# Altium footprint library Parts.PcbLib: 9 footprints
Each footprint in its own frame and in the unit in brackets; x right, y up, seen from the top. Pads: shape width x height; smd on the part's side, far side on the other; paste and mask are expansions set on the pad; w line width, h text height; cw(c..) or ccw(c..) is an arc to the next point about the centre after c.
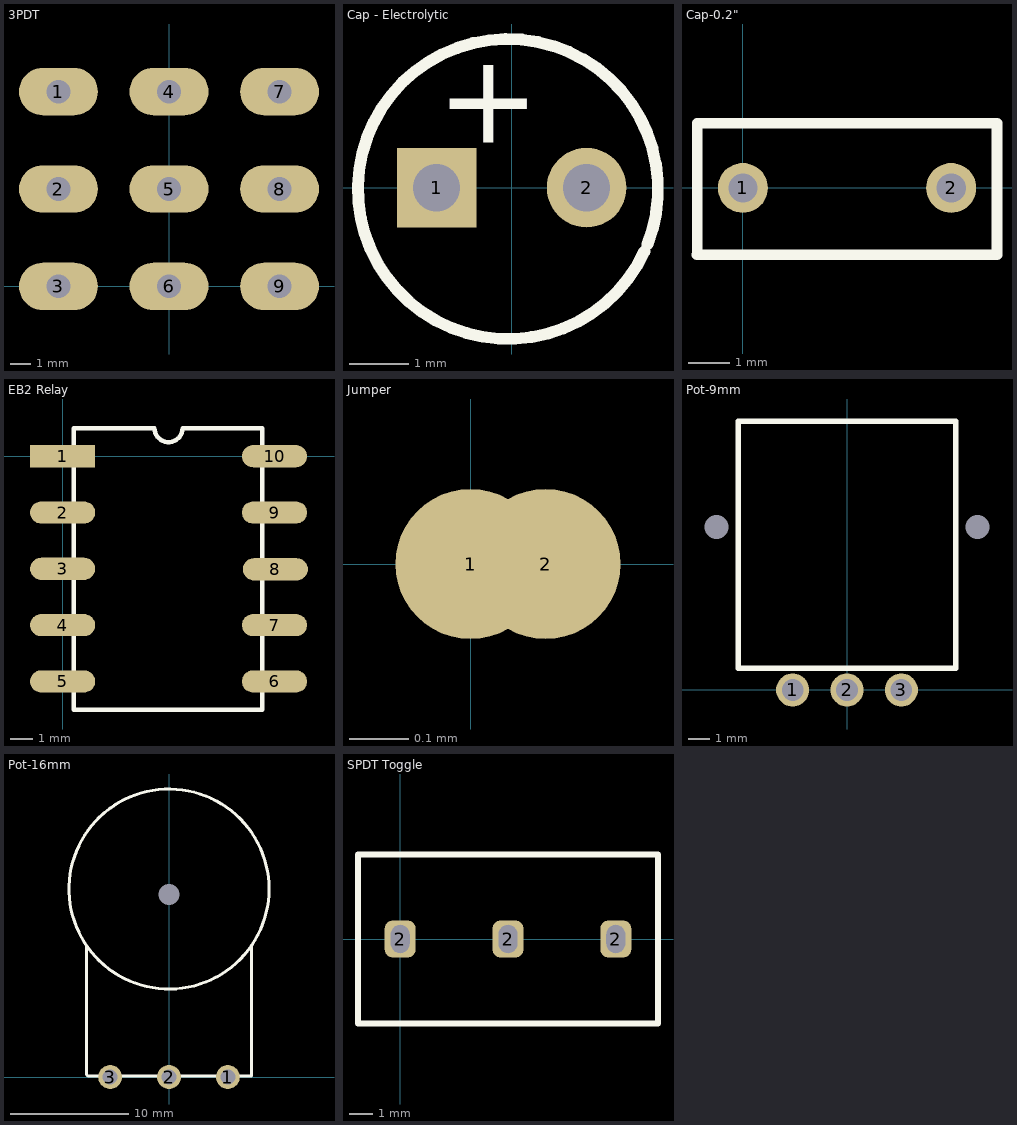
[diagram p0: the footprints below, top view; thin cyan lines are the x and y axes]

## 3PDT [mil]
pads (9):
  oval 150x90 hole 45 square: 1(-210,370) 2(-210,185) 3(-210,0) 4(0,370) 5(0,185) 6(0,0) 7(210,370) 8(210,185) 9(210,0)
3D body "3PDT.stp": height 1566.8, standoff -185.17, extent -386.65,-149.64 385,519.64

## Cap - Electrolytic [mm]
pads (2):
  rect 1.35x1.35 hole 0.8: 1(-1.27,0)
  round 1.35 hole 0.8: 2(1.27,0)
Top Overlay:
  lines w0.2: 2.249,-1.079 cw(c-0.061,-0.022) 2.296,-0.968
  text "+" at -1.27,0.762 h1.52

## Cap-0.2" [mm]
pads (2):
  round 1.2 hole 0.7: 1(0,0) 2(5,0)
Top Overlay:
  lines w0.254: -1.102,-1.6 6.1,-1.6 6.1,1.55 -1.1,1.55 -1.1,-1.6
3D body: height 6.5, standoff 0.2, extent -1.1,-1.6 6.1,1.5

## DC_Jack [mil]
3D body: height 540, standoff 500, extent -208.93,373.87 201.07,783.62
3D body: height 720, standoff 540, extent -161.42,472.44 -157.48,570.87
3D body: height 710, standoff 540, extent -143.7,688.98 -45.28,692.91
3D body: height 60, standoff 0, extent -273.93,308.75 266.07,848.75
3D body: height 500, standoff 60, extent -231.81,359.21 208.19,799.21

## EB2 Relay [mm]
pads (10):
  rect 2.94x1 smd: 1(0,0)
  oval 2.94x1 smd: 2(0,-2.54) 3(0,-5.08) 4(0,-7.62) 5(0,-10.16) 6(9.56,-10.16) 7(9.56,-7.62) 8(9.6,-5.1) 9(9.56,-2.54) 10(9.56,0)
Top Overlay:
  lines w0.2: 0.5,-11.43 9,-11.43 9,1.27 5.415,1.27 cw(c4.78,1.27) 4.145,1.27 0.5,1.27 0.5,-11.43
3D body: height 7.5, standoff 1.25, extent 0.5,-11.4 9,1.2

## Jumper [mil]
pads (2):
  round 10 smd paste+0: 1(0,0)
  round 10 smd: 2(5,0)

## Pot-9mm [mm]
pads (5):
  round 1.524 hole 1: 1(-2.5,0) 2(0,0) 3(2.5,0)
  round 0 hole 1.1 square: 4(6,7.5)
  rect 0x0 hole 1.1 square unplated: 5(-6,7.5)
Top Overlay:
  lines w0.254: -5,1 -5,12.35 5,12.35 5,1 -5,1
3D body "Potentiometer.STEP": height 24.1, standoff -2.35, extent -5.3,0 5.3,12.3

## Pot-16mm [mil]
pads (4):
  round 80 hole 50: 1(196.85,0) 2(0,0) 3(-196.85,0)
  round 0 hole 70: 6(0,610.24)
Top Overlay:
  circle w10: c0,629 r334.6
  lines w10: -275.59,437.01 -275.59,7.87 -271.65,3.94 275.59,3.94 275.59,440.94
3D body: height 384, standoff 70, extent -334.63,275.73 334.65,944.76
3D body: height 330, standoff 250, extent -267.72,7.87 283.46,444.88
3D body: height 330, standoff -10, extent -23.62,-3.94 23.62,7.87
3D body: height 330, standoff -10, extent -220.47,-3.94 -173.23,7.87
3D body: height 330, standoff -10, extent 173.23,-3.94 220.47,7.87
3D body: height 900, standoff 300, extent -124.99,485.37 125,735.12

## SPDT Toggle [mil]
pads (3):
  rrect50% 52x62 hole 31.5 slot 47.24 at 90 deg: 2(0,0) 2(181.1,0) 2(362.2,0)
Top Overlay:
  lines w10: -70.87,-141.73 433.07,-141.73 433.07,141.73 -70.87,141.73 -70.87,-141.73
3D body: height 954.82, standoff 691.32, extent 169.52,-52.56 311.02,47.24
3D body: height 354.33, standoff 19.68, extent -72.83,-137.8 427.17,141.73
3D body: height 704.33, standoff 350, extent 35.43,-137.54 318.9,145.67
3D body: height 992, standoff 888, extent 207.67,-55.55 311.26,48.24